# Altium footprint library Relay_THT.PcbLib: 78 footprints (part 2 of 5)
Each footprint in its own frame and in the unit in brackets; x right, y up, seen from the top. Pads: shape width x height; smd on the part's side, far side on the other; paste and mask are expansions set on the pad; w line width, h text height; cw(c..) or ccw(c..) is an arc to the next point about the centre after c.
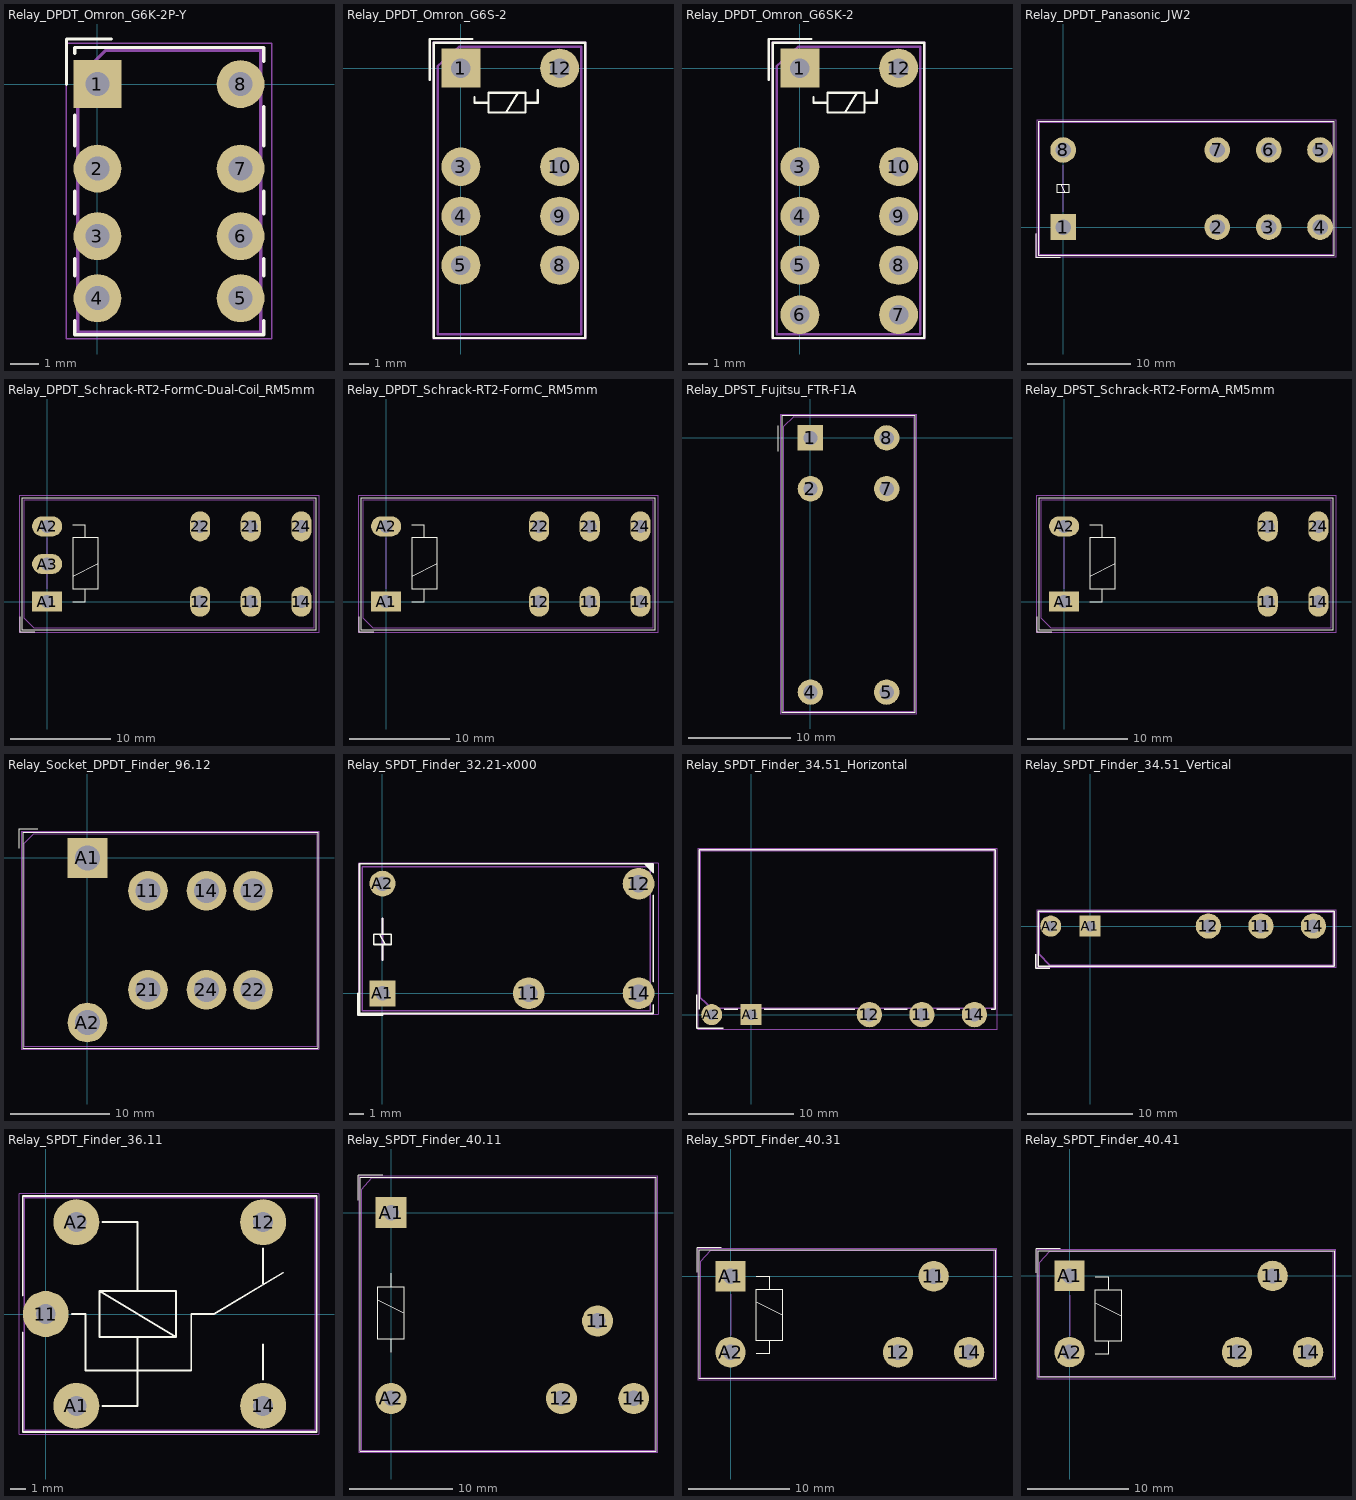
[diagram p1: the footprints below, top view; thin cyan lines are the x and y axes]

## Relay_DPDT_Omron_G6K-2P-Y [mm]
pads (8):
  rect 1.7x1.7 hole 0.85: 1(0,0)
  round 1.7 hole 0.85: 2(0,-3) 3(0,-5.4) 4(0,-7.6) 5(5.08,-7.6) 6(5.08,-5.4) 7(5.08,-3) 8(5.08,0)
F.SilkS:
  lines w0.12: -1.1,0 -1.1,1.6 0.5,1.6 ; -0.8,-8.4 -0.8,-8.9 5.9,-8.9 5.9,-8.4 ; -0.8,-6.8 -0.8,-6.2 ; -0.8,-4.6 -0.8,-3.8 ; -0.8,-2.2 -0.8,-1.1 ; -0.8,1.1 -0.8,1.3 5.9,1.3 5.9,0.8 ; 5.9,-6.8 5.9,-6.2 ; 5.9,-4.6 5.9,-3.8 ; 5.9,-2.2 5.9,-0.8
F.CrtYd:
  lines w0.05: -1.1,-9.05 -1.1,1.45 6.18,1.45 6.18,-9.05 -1.1,-9.05
F.Fab:
  lines w0.12: -0.7,-8.8 5.8,-8.8 5.8,1.2 0.3,1.2 -0.7,0.2 -0.7,-8.8
  text "'.Designator'" at -1.497,-4.64 h1

## Relay_DPDT_Omron_G6S-2 [mm]
pads (8):
  rect 2x2 hole 1: 1(0,0)
  round 2 hole 1: 3(0,-5.08) 4(0,-7.62) 5(0,-10.16) 8(5.08,-10.16) 9(5.08,-7.62) 10(5.08,-5.08) 12(5.08,0)
F.SilkS:
  lines w0.12: -1.6,-0.6 -1.6,1.5 0.6,1.5 ; 0.7,-1.5 0.7,-1.778 1.422,-1.778 ; 2.311,-2.286 2.946,-1.27 ; 3.327,-1.778 3.962,-1.778 3.962,-1.143 ; -1.4,-13.9 6.4,-13.9 6.4,1.3 -1.4,1.3 -1.4,-13.9 ; 1.422,-2.286 3.327,-2.286 3.327,-1.27 1.422,-1.27 1.422,-2.286
F.CrtYd:
  lines w0.05: -1.45,-13.95 -1.45,1.35 6.45,1.35 6.45,-13.95 -1.45,-13.95
F.Fab:
  lines w0.12: -1.2,-13.7 -1.2,0.1 -0.1,1.1 6.2,1.1 6.2,-13.7 -1.2,-13.7
  text "'.Designator'" at -1.507,-7.19 h1

## Relay_DPDT_Omron_G6SK-2 [mm]
pads (10):
  rect 2x2 hole 1: 1(0,0)
  round 2 hole 1: 3(0,-5.08) 4(0,-7.62) 5(0,-10.16) 6(0,-12.7) 7(5.08,-12.7) 8(5.08,-10.16) 9(5.08,-7.62) 10(5.08,-5.08) 12(5.08,0)
F.SilkS:
  lines w0.12: -1.6,-0.6 -1.6,1.5 0.6,1.5 ; 0.7,-1.5 0.7,-1.778 1.422,-1.778 ; 2.311,-2.286 2.946,-1.27 ; 3.327,-1.778 3.962,-1.778 3.962,-1.143 ; -1.4,-13.9 6.4,-13.9 6.4,1.3 -1.4,1.3 -1.4,-13.9 ; 1.422,-2.286 3.327,-2.286 3.327,-1.27 1.422,-1.27 1.422,-2.286
F.CrtYd:
  lines w0.05: -1.45,-13.95 -1.45,1.35 6.45,1.35 6.45,-13.95 -1.45,-13.95
F.Fab:
  lines w0.12: -1.2,-13.7 -1.2,0.1 -0.1,1.1 6.2,1.1 6.2,-13.7 -1.2,-13.7
  text "'.Designator'" at -1.507,-7.19 h1

## Relay_DPDT_Panasonic_JW2 [mm]
pads (8):
  rect 2.5x2.5 hole 1.5: 1(0,0)
  rrect100% 2.5x2.5 hole 1.5: 2(15,0) 3(20,0) 4(25,0) 5(25,7.5) 6(20,7.5) 7(15,7.5) 8(0,7.5)
F.SilkS:
  lines w0.12: -2.64,-0.65 -2.64,-2.99 -0.3,-2.99 ; -0.2,4.1 0.2,3.4 ; -2.4,-2.75 -2.4,10.25 26.4,10.25 26.4,-2.75 -2.4,-2.75 ; -0.6,3.4 -0.6,4.1 0.6,4.1 0.6,3.4 -0.6,3.4
F.CrtYd:
  lines w0.05: -2.55,-2.9 26.55,-2.9 26.55,10.4 -2.55,10.4 -2.55,-2.9
F.Fab:
  lines w0.1: -2.64,-0.65 -2.64,-2.99 -0.3,-2.99 ; 0,1.5 0,6 ; -2.3,-2.65 26.3,-2.65 26.3,10.15 -2.3,10.15 -2.3,-2.65
  text "'.Designator'" at 7.953,2.91 h1

## Relay_DPDT_Schrack-RT2-FormC-Dual-Coil_RM5mm [mm]
pads (9):
  rrect100% 2x3 hole 1.3: 11(20.3,0) 12(15.26,0) 14(25.34,0) 21(20.3,7.5) 22(15.26,7.5) 24(25.34,7.5)
  rect 3x2 hole 1.3: A1(0,0)
  rrect100% 3x2 hole 1.3: A2(0,7.5) A3(0,3.75)
F.SilkS:
  lines w0.1: 2.54,2.54 5.08,3.81
  lines w0.12: -2.75,-1.5 -2.75,-3 -1.25,-3 ; 2.54,0 3.81,0 3.81,1.27 ; 2.54,7.62 3.81,7.62 3.81,6.35 ; 3.81,1.27 5.08,1.27 5.08,6.35 2.54,6.35 2.54,1.27 3.81,1.27 ; -2.55,-2.8 26.85,-2.8 26.85,10.3 -2.55,10.3 -2.55,-2.8
F.CrtYd:
  lines w0.05: -2.8,-3.05 -2.8,10.55 27.1,10.55 27.1,-3.05 -2.8,-3.05
F.Fab:
  lines w0.1: -2.35,-1.6 -1.35,-2.6 26.65,-2.6 26.65,10.1 -2.35,10.1 -2.35,-1.6
  lines w0.12: 0,1.27 0,6.35
  text "'.Designator'" at 8.018,2.97 h1

## Relay_DPDT_Schrack-RT2-FormC_RM5mm [mm]
pads (8):
  rrect100% 2x3 hole 1.3: 11(20.3,0) 12(15.26,0) 14(25.34,0) 21(20.3,7.5) 22(15.26,7.5) 24(25.34,7.5)
  rect 3x2 hole 1.3: A1(0,0)
  rrect100% 3x2 hole 1.3: A2(0,7.5)
F.SilkS:
  lines w0.1: 2.54,2.54 5.08,3.81
  lines w0.12: -2.75,-1.5 -2.75,-3 -1.25,-3 ; 2.54,0 3.81,0 3.81,1.27 ; 2.54,7.62 3.81,7.62 3.81,6.35 ; 3.81,1.27 5.08,1.27 5.08,6.35 2.54,6.35 2.54,1.27 3.81,1.27 ; -2.55,-2.8 26.85,-2.8 26.85,10.3 -2.55,10.3 -2.55,-2.8
F.CrtYd:
  lines w0.05: -2.8,-3.05 27.1,-3.05 27.1,10.55 -2.8,10.55 -2.8,-3.05
F.Fab:
  lines w0.1: -2.35,-1.6 -1.35,-2.6 26.65,-2.6 26.65,10.1 -2.35,10.1 -2.35,-1.6
  lines w0.12: 0,1.27 0,6.35
  text "'.Designator'" at 8.018,2.97 h1

## Relay_DPST_Fujitsu_FTR-F1A [mm]
pads (6):
  rect 2.5x2.5 hole 1.4: 1(0,0)
  round 2.5 hole 1.4: 2(0,-5) 4(0,-25) 5(7.5,-25) 7(7.5,-5) 8(7.5,0)
F.SilkS:
  lines w0.12: -3.2,-1.3 -3.2,1.2 ; -2.78,-27.03 -2.78,2.23 10.28,2.23 10.28,-27.03 -2.78,-27.03
F.CrtYd:
  lines w0.05: -2.9,-27.15 10.4,-27.15 10.4,2.35 -2.9,2.35 -2.9,-27.15
F.Fab:
  lines w0.1: -2.65,-26.9 10.15,-26.9 10.15,2.1 -1.65,2.1 -2.65,1.1 -2.65,-26.9
  text "'.Designator'" at 5.435,-19.345 h1.5

## Relay_DPST_Schrack-RT2-FormA_RM5mm [mm]
pads (6):
  rrect100% 2x3 hole 1.3: 11(20.3,0) 14(25.34,0) 21(20.3,7.5) 24(25.34,7.5)
  rect 3x2 hole 1.3: A1(0,0)
  rrect100% 3x2 hole 1.3: A2(0,7.5)
F.SilkS:
  lines w0.1: 2.54,2.54 5.08,3.81
  lines w0.12: -2.75,-1.5 -2.75,-3 -1.25,-3 ; 2.54,0 3.81,0 3.81,1.27 ; 2.54,7.62 3.81,7.62 3.81,6.35 ; 3.81,1.27 5.08,1.27 5.08,6.35 2.54,6.35 2.54,1.27 3.81,1.27 ; -2.55,-2.8 -2.55,10.3 26.85,10.3 26.85,-2.8 -2.55,-2.8
F.CrtYd:
  lines w0.05: -2.8,-3.05 -2.8,10.55 27.1,10.55 27.1,-3.05 -2.8,-3.05
F.Fab:
  lines w0.1: -2.35,-1.6 -2.35,10.1 26.65,10.1 26.65,-2.6 -1.35,-2.6 -2.35,-1.6
  lines w0.12: 0,1.27 0,6.35
  text "'.Designator'" at 8.018,2.97 h1

## Relay_Socket_DPDT_Finder_96.12 [mm]
pads (8):
  round 4 hole 2.5: 11(6.1,-3.3) 12(16.7,-3.3) 14(12,-3.3) 21(6.1,-13.3) 22(16.7,-13.3) 24(12,-13.3) A2(0,-16.6)
  rect 4x4 hole 2.5: A1(0,0)
F.SilkS:
  lines w0.12: -6.9,1 -6.9,2.95 -5,2.95 ; -6.52,2.55 -6.52,-19.17 23.22,-19.17 23.22,2.57 -6.52,2.57
F.CrtYd:
  lines w0.05: -6.65,-19.3 23.35,-19.3 23.35,2.7 -6.65,2.7 -6.65,-19.3
F.Fab:
  lines w0.1: -6.4,-19.05 -6.4,1.45 -5.4,2.45 23.1,2.45 23.1,-19.05 -6.4,-19.05
  text "'.Designator'" at 8.018,-9.24 h1

## Relay_SPDT_Finder_32.21-x000 [mm]
pads (5):
  round 2.2 hole 1.2: 11(10.16,0) 12(17.78,7.62) 14(17.78,0)
  rect 1.8x1.8 hole 1: A1(0,0)
  round 1.8 hole 1: A2(0,7.62)
F.SilkS:
  lines w0.12: -1.7,0 -1.7,-1.5 0,-1.5 ; -0.2,4.1 0.2,3.4 ; 0,2.3 0,3.4 ; 0,4.1 0,5.2 ; 18.2,9 18.8,8.4 18.8,9 -1.6,9 -1.6,-1.4 18.8,-1.4 18.8,-0.8 ; 18.3,9 18.8,8.5 ; 18.6,9 18.8,8.8 ; 18.8,0.8 18.8,6.8 ; 18.8,8.6 18.4,9 18.8,8.7 ; -0.6,3.4 0.6,3.4 0.6,4.1 -0.6,4.1 -0.6,3.4
F.CrtYd:
  lines w0.05: -1.65,-1.45 19.13,-1.45 19.13,9.05 -1.65,9.05 -1.65,-1.45
F.Fab:
  lines w0.12: 0,2.3 0,5.2 ; -1.4,-1.2 18.6,-1.2 18.6,8.8 -1.4,8.8 -1.4,-1.2
  text "'.Designator'" at 6.153,3.26 h1

## Relay_SPDT_Finder_34.51_Horizontal [mm]
pads (5):
  round 2.4 hole 1.3: 11(16.25,0) 12(11.25,0) 14(21.25,0)
  rect 2x2 hole 1: A1(0,0)
  round 2 hole 1: A2(-3.75,0)
F.SilkS:
  lines w0.12: -5.15,1.9 -5.15,-1.3 -2.65,-1.3 ; -4.95,0.5 -4.95,15.7 23.25,15.7 23.25,0.5 22.85,0.5 ; -2.55,0.5 -1.25,0.5 ; 1.25,0.5 9.85,0.5 ; 12.65,0.5 14.85,0.5 ; 17.65,0.5 19.85,0.5
F.CrtYd:
  lines w0.05: -5.1,-1.45 23.4,-1.45 23.4,15.85 -5.1,15.85 -5.1,-1.45
F.Fab:
  lines w0.12: -4.85,1.6 -3.75,0.6 23.15,0.6 23.15,15.6 -4.85,15.6 -4.85,1.6
  text "'.Designator'" at 5.803,6.56 h1

## Relay_SPDT_Finder_34.51_Vertical [mm]
pads (5):
  round 2.4 hole 1.3: 11(16.25,0) 12(11.25,0) 14(21.25,0)
  rect 2x2 hole 1: A1(0,0)
  round 2 hole 1: A2(-3.75,0)
F.SilkS:
  lines w0.12: -5.15,-2.7 -5.15,-4 -3.85,-4 ; -4.95,-3.8 -4.95,1.4 23.25,1.4 23.25,-3.8 -4.95,-3.8
F.CrtYd:
  lines w0.05: -5.1,-3.95 23.4,-3.95 23.4,1.55 -5.1,1.55 -5.1,-3.95
F.Fab:
  lines w0.12: -4.85,-2.7 -4.85,1.3 23.15,1.3 23.15,-3.7 -3.85,-3.7 -4.85,-2.7
  text "'.Designator'" at 6.203,-3.24 h1

## Relay_SPDT_Finder_36.11 [mm]
pads (5):
  round 3 hole 1.3: 11(0,0) 12(14.2,6) 14(14.2,-6) A1(2,-6) A2(2,6)
F.SilkS:
  lines w0.12: -1.5,-1.2 -1.5,-7.7 17.7,-7.7 17.7,7.7 -1.5,7.7 -1.5,1.2 ; 1.7,0 2.6,0 2.6,-3.7 9.5,-3.7 9.5,0 11,0 15.5,2.7 ; 3.7,-6 6,-6 6,-1.5 ; 3.7,6 6,6 6,1.5 ; 14.2,-4.3 14.2,-2 ; 14.2,2 14.2,4.3 ; 3.5,1.5 8.5,1.5 8.5,-1.5 ; 3.5,1.5 8.5,-1.5 ; 3.5,1.5 3.5,-1.5 8.5,-1.5
F.CrtYd:
  lines w0.05: -1.75,-7.85 -1.75,7.85 17.85,7.85 17.85,-7.85 -1.75,-7.85
F.Fab:
  lines w0.1: -1.4,-7.6 -1.4,7.6 17.6,7.6 17.6,-7.6 -1.4,-7.6
  text "'.Designator'" at 3.053,-0.865 h1

## Relay_SPDT_Finder_40.11 [mm]
pads (5):
  round 3 hole 1.5: 11(20,-10.5) 12(16.5,-18) 14(23.5,-18) A2(0,-18)
  rect 3x3 hole 1.5: A1(0,0)
F.SilkS:
  lines w0.12: -3.2,1.2 -3.2,3.6 -0.8,3.6 ; -1.31,-8.44 1.23,-9.71 ; -0.04,-13.52 -0.04,-12.25 ; -0.04,-5.9 -0.04,-7.17 ; -0.04,-7.17 1.23,-7.17 1.23,-12.25 -1.31,-12.25 -1.31,-7.17 -0.04,-7.17 ; -3,-23.1 -3,3.4 25.7,3.4 25.7,-23.1 -3,-23.1
F.CrtYd:
  lines w0.05: -3.15,-23.25 -3.15,3.55 25.85,3.55 25.85,-23.25 -3.15,-23.25
F.Fab:
  lines w0.12: -2.9,-23 25.6,-23 25.6,3.3 -1.9,3.3 -2.9,2.2 -2.9,-23
  text "'.Designator'" at 6.653,-11.44 h1

## Relay_SPDT_Finder_40.31 [mm]
pads (5):
  round 3 hole 1.5: 11(20,0) 12(16.5,-7.5) 14(23.5,-7.5) A2(0,-7.5)
  rect 3x3 hole 1.5: A1(0,0)
F.SilkS:
  lines w0.12: -3.3,0.4 -3.3,2.8 -0.9,2.8 ; 2.54,-7.62 3.81,-7.62 3.81,-6.35 ; 2.54,-2.54 5.08,-3.81 ; 2.54,0 3.81,0 3.81,-1.27 ; 3.81,-1.27 2.54,-1.27 2.54,-6.35 5.08,-6.35 5.08,-1.27 3.81,-1.27 ; -3.1,-10.1 26.1,-10.1 26.1,2.6 -3.1,2.6 -3.1,-10.1
F.CrtYd:
  lines w0.05: -3.25,-10.25 26.25,-10.25 26.25,2.75 -3.25,2.75 -3.25,-10.25
F.Fab:
  lines w0.12: 0,-5.8 0,-1.8 ; -3,-10 -3,1.4 -2,2.5 26,2.5 26,-10 -3,-10
  text "'.Designator'" at 8.018,-4.65 h1

## Relay_SPDT_Finder_40.41 [mm]
pads (5):
  round 3 hole 1.5: 11(20,0) 12(16.5,-7.5) 14(23.5,-7.5) A2(0,-7.5)
  rect 3x3 hole 1.5: A1(0,0)
F.SilkS:
  lines w0.12: -3.3,0.3 -3.3,2.7 -0.9,2.7 ; 2.54,-7.72 3.81,-7.72 3.81,-6.45 ; 2.54,-2.64 5.08,-3.91 ; 2.54,-0.1 3.81,-0.1 3.81,-1.37 ; 3.81,-1.37 5.08,-1.37 5.08,-6.45 2.54,-6.45 2.54,-1.37 3.81,-1.37 ; -3.1,-10 26.1,-10 26.1,2.5 -3.1,2.5 -3.1,-10
F.CrtYd:
  lines w0.05: -3.25,-10.2 -3.25,2.65 26.25,2.65 26.25,-10.2 -3.25,-10.2
F.Fab:
  lines w0.12: 0,-5.9 0,-1.9 ; -3,-9.9 -3,1.3 -2,2.4 26,2.4 26,-9.9 -3,-9.9
  text "'.Designator'" at 8.018,-4.75 h1